# Altium schematic symbol library 24aa01.SchLib: 1 symbol
Pins are listed as number, name and electrical type; pins without a type are passive.

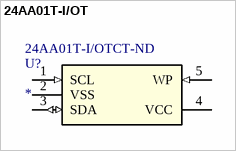
[diagram p0: symbol 24AA01T-I/OT]

## 24AA01T-I/OT
designator U?  Supplier Part Number 1: 24AA01T-I/OTCT-ND
Imported; Manufacturer_Part_Number: 24AA01T-I/OT; Vendor: Microchip; Built_By: EMA_UL_Team; C: Copyright (C) 2015 Accelerated Designs. All rights reserved; RefDes: RefDes; Type: DEV; Value: Value; Supplier 1: Digi-Key
footprint SOT-23-5_MC
pins: 1 SCL (in), 2 VSS, 3 SDA (io), 4 VCC, 5 WP (in)